# Altium schematic symbol library RGY LEDs.SchLib: 1 symbol
Pins are listed as number, name and electrical type; pins without a type are passive.

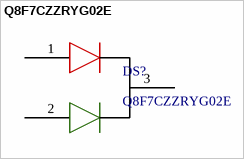
[diagram p0: symbol Q8F7CZZRYG02E]

## Q8F7CZZRYG02E
designator DS?
footprint Q8F7CZZRYG02E
pins: 1, 2, 3